# EAGLE library part 61201022821 (library Wuerth_Elektronik_eiCan_Box_Header_&_IDC_Connectors_v1.2)
WR-BHD 2.54mm Male Box Header With Lever, 10 Pins
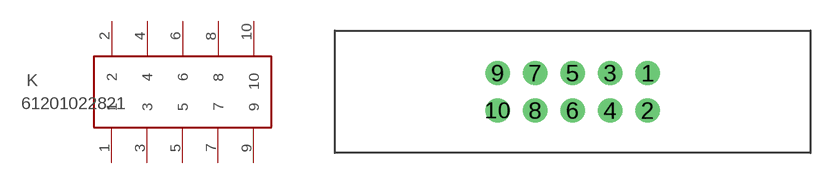
[diagram p132: symbol with the pads of 61201022821; footprint 61201022821]

Designator prefix K

## 61201022821  [61201022821]
1  1  pas
2  2  pas
3  3  pas
4  4  pas
5  5  pas
6  6  pas
7  7  pas
8  8  pas
9  9  pas
10  10  pas

## Footprint 61201022821 (pad centres in mm)
WR-BHD 2.54mm Male Box Header With Lever, 10 Pins
drill 1.1 round: 1 5.08,1.27; 2 5.08,-1.27; 3 2.54,1.27; 4 2.54,-1.27; 5 0,1.27; 6 0,-1.27; 7 -2.54,1.27; 8 -2.54,-1.27; 9 -5.08,1.27; 10 -5.08,-1.27